# Altium footprint library usb_ttl_pcb_library.PcbLib: 7 footprints
Each footprint in its own frame and in the unit in brackets; x right, y up, seen from the top. Pads: shape width x height; smd on the part's side, far side on the other; paste and mask are expansions set on the pad; w line width, h text height; cw(c..) or ccw(c..) is an arc to the next point about the centre after c.
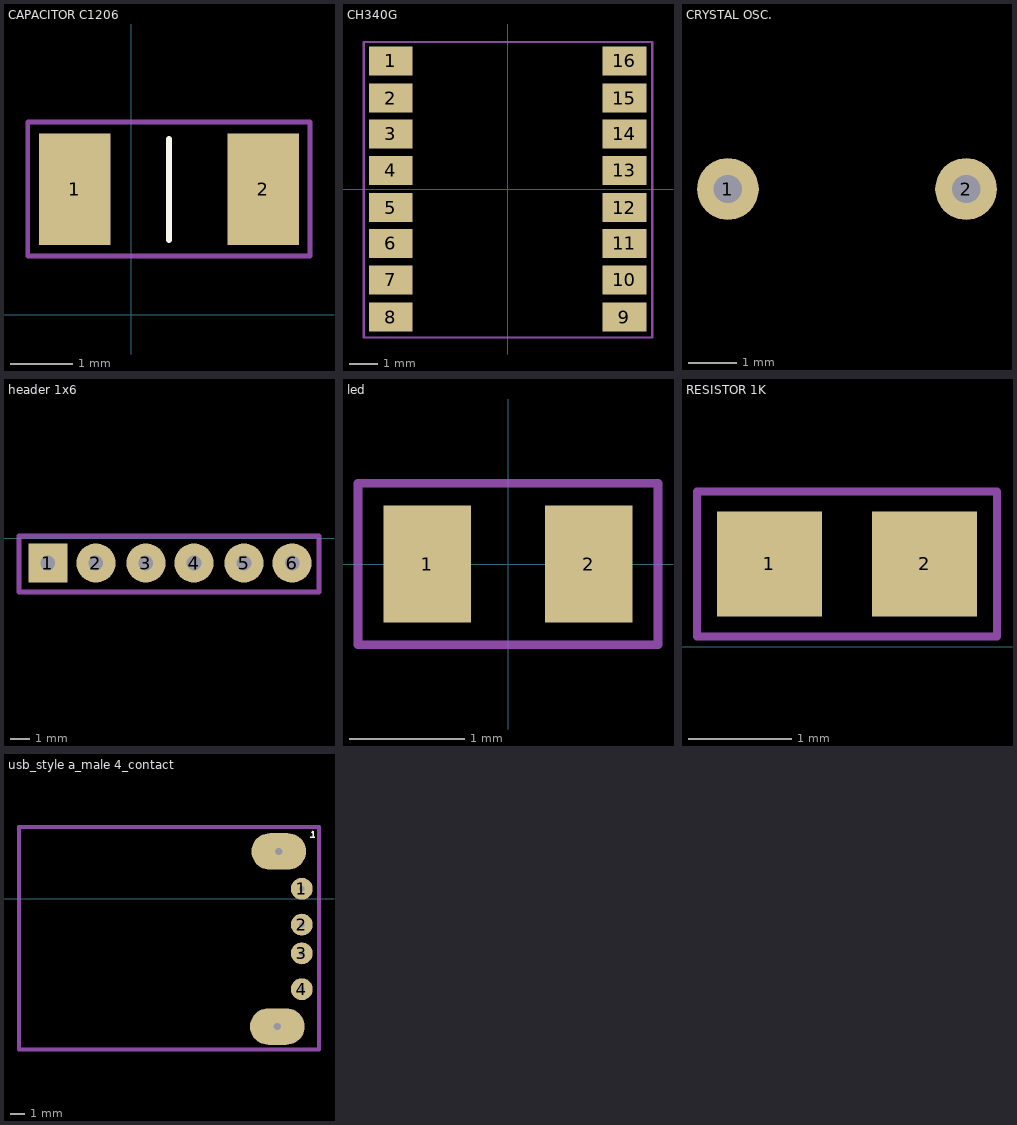
[diagram p0: the footprints below, top view; thin cyan lines are the x and y axes]

## CAPACITOR C1206 [mil]
pads (2):
  rect 45x70 smd: 1(-35.43,78.74) 2(82.68,78.74)
Top Overlay:
  lines w3.94: 23.62,47.24 23.62,110.24
Mechanical 1:
  lines w3: -65,37 112,37 112,121 -65,121 -65,37
3D body "capacitor c1206.step": height 70.24, standoff 8.82, extent -39.37,46.06 86.61,111.42

## CH340G [mil]
pads (16):
  rect 60x40 smd mask+2: 1(-160,175.5) 2(-160,124.5) 3(-160,75.5) 4(-160,25.5) 5(-160,-25.5) 6(-160,-74.5) 7(-160,-124.5) 8(-160,-175.5) 9(160,-175.5) 10(160,-124.5) 11(160,-74.5) 12(160,-25.5) 13(160,25.5) 14(160,75.5) 15(160,124.5) 16(160,175.5)
Mechanical 1:
  lines w3: -197,-203.5 198,-203.5 198,201.5 -197,201.5 -197,-203.5
3D body "CH340G.step": height 74.06, standoff 15, extent -171.46,-196.35 171.46,197.35

## CRYSTAL OSC. [mil]
pads (2):
  round 50 hole 23: 1(-498.05,-305.6) 2(-305.13,-305.6)
3D body "crystal oscillator 2 leg.step": height 152.8, standoff -73.58, extent -622.06,-397.14 -181.12,-216.04

## header 1x6 [mil]
pads (6):
  rect 80x80 hole 30 square: 1(149.61,-51.18)
  round 80 hole 30 square: 2(248.03,-51.18) 3(350.39,-51.18) 4(448.82,-51.18) 5(551.18,-51.18) 6(649.61,-51.18)
Mechanical 1:
  lines w10: 90.55,-110.24 704.72,-110.24 704.72,3.94 90.55,3.94 90.55,-110.24
3D body "header 1x6 pin.step": height 353.58, standoff -103.11, extent 97.64,-102.36 697.64,-2.36

## led [mil]
pads (2):
  rect 30x40 smd: 1(-27.56,0) 2(27.56,0)
Mechanical 1:
  lines w3: -51.18,-27.56 51.18,-27.56 51.18,27.56 -51.18,27.56 -51.18,-27.56
3D body "led dip.step": height 31.76, standoff 5.19, extent -34.45,-13.29 30.51,15.26

## RESISTOR 1K [mil]
pads (2):
  rect 40x40 smd: 1(39.37,31.5) 2(98.43,31.5)
Mechanical 1:
  lines w3: 11.81,3.94 125.98,3.94 125.98,59.06 11.81,59.06 11.81,3.94
3D body "RESISTOR 0603.step": height 23.9, standoff 3.82, extent 35.43,14.57 98.43,48.43

## usb_style a_male 4_contact [mil]
pads (6):
  round 60 hole 15 square: 1(-236.22,27.56) 2(-236.22,-70.87) 3(-236.22,-149.61) 4(-236.22,-248.03)
  oval 150x100 hole 20 square: ""(-303.15,-350.39) ""(-299.21,129.92)
Top Overlay:
  lines w3.94: -212.6,169.29 -200.79,169.29 ; -208.66,181.1 -204.72,185.04 -204.72,171.26 -204.72,177.17
Mechanical 1:
  lines w10: -1011.81,-413.39 -188.98,-413.39 -188.98,196.85 -1011.81,196.85 -1011.81,-413.39
3D body "usb_male_,style_a_4_contact.step": height 160.61, standoff -75.61, extent -998.03,-355.83 -228.35,135.35